# EAGLE library part IPS_TFT_DISPLAY (library _mtvl.display)
1.54" TFT IPS LCD Display Module 240x240 SPI for Arduino Raspberry Pi https://www.buydisplay.com/1-54-inch-tft-ips-lcd-display-module-240x240-spi-for-arduino-raspberry-pi
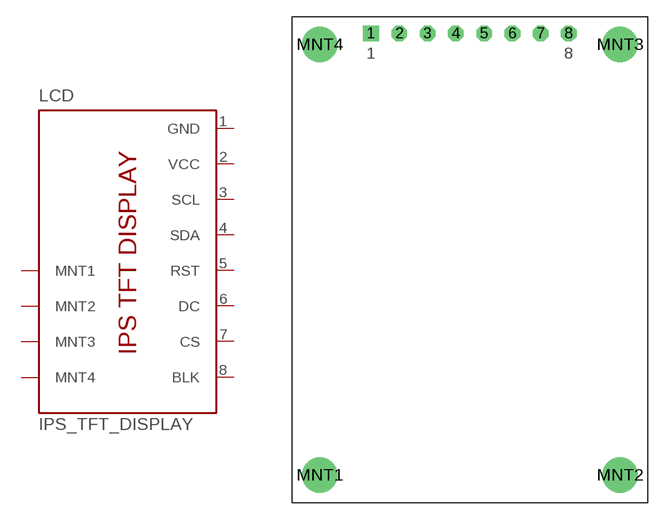
[diagram p12: symbol with the pads of ER-TFTM1.54-1; footprint ER-TFTM1.54-1]

Designator prefix LCD

## IPS_TFT_DISPLAY  [ER-TFTM1.54-1]
1  GND
2  VCC
3  SCL
4  SDA
5  RST
6  DC
7  CS
8  BLK
MNT1  MNT1
MNT2  MNT2
MNT3  MNT3
MNT4  MNT4

## Footprint ER-TFTM1.54-1 (pad centres in mm)
1.54" TFT IPS LCD Display Module 240x240 SPI for Arduino Raspberry Pi >https://www.buydisplay.com/1-54-inch-tft-ips-lcd-display-module-240x240-spi-for-arduino-raspberry-pi
drill 0.9 square: 1 -8.89,18.81
drill 0.9 octagon: 2 -6.35,18.81; 3 -3.81,18.81; 4 -1.27,18.81; 5 1.27,18.81; 6 3.81,18.81; 7 6.35,18.81; 8 8.89,18.81
drill 2.2: MNT1 -13.5,-20.91; MNT2 13.5,-20.91; MNT3 13.5,17.81; MNT4 -13.5,17.81